# Altium footprint library rcl.PCBLIB: 489 footprints (part 9 of 31)
Each footprint in its own frame and in the unit in brackets; x right, y up, seen from the top. Pads: shape width x height; smd on the part's side, far side on the other; paste and mask are expansions set on the pad; w line width, h text height; cw(c..) or ccw(c..) is an arc to the next point about the centre after c.
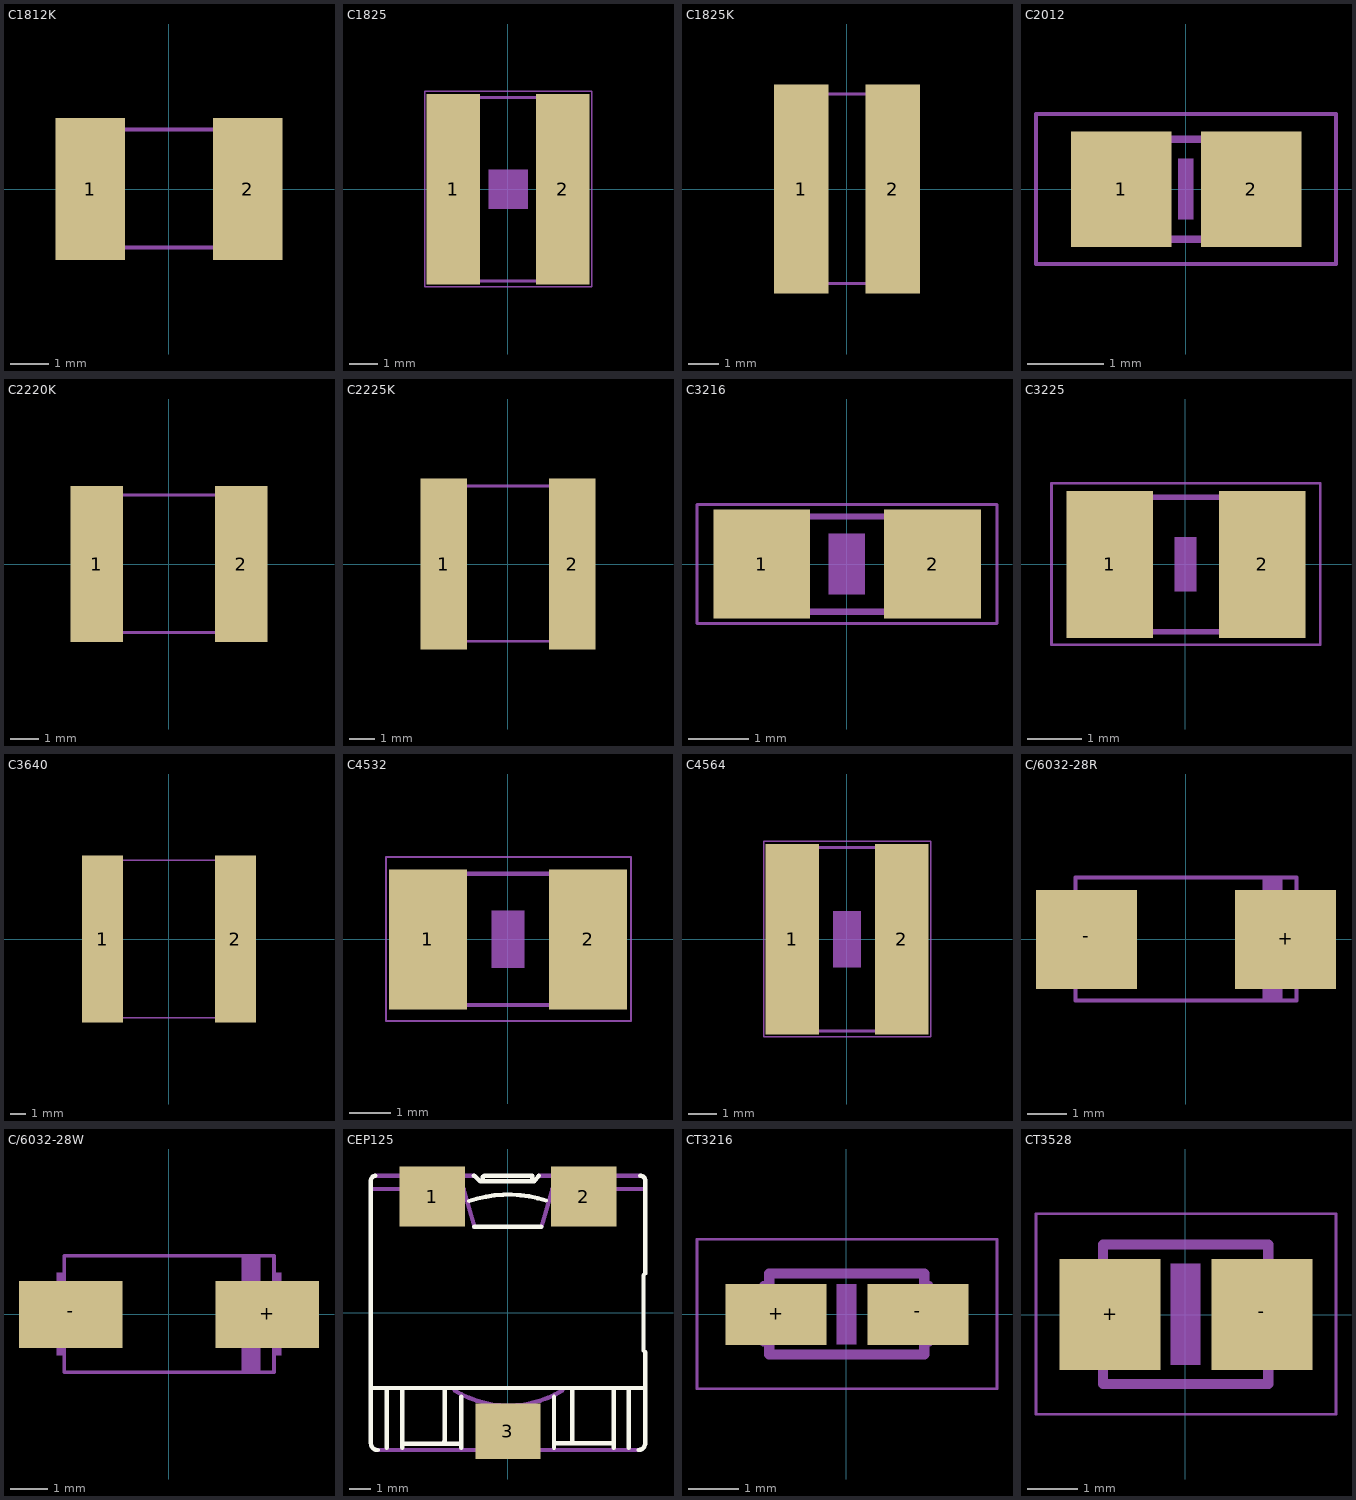
[diagram p8: the footprints below, top view; thin cyan lines are the x and y axes]

## C1812K [mil]
pads (2):
  rect 71x146 smd: 1(-80.71,0) 2(81,0)
Mechanical 16:
  rectangle: -88.58,-62.99 -64.96,63
  rectangle: 65,-62.99 89,63
  lines w4: -85.63,-60.04 86,-60.04 ; -85.63,61 86,61

## C1825 [mil]
pads (2):
  rect 75x268 smd: 1(-76.77,0) 2(77,0)
Mechanical 6:
  rectangle: -27.56,-27.56 28,28
Mechanical 16:
  rectangle: -95,-132 -57.6,132
  rectangle: 57,-132 95,132
  lines w4: -59,129 58,129 ; -58,-129 59,-129
Mechanical 27:
  lines w2: -117.05,-137.13 118,-137.13 118,138 -117.05,138 -117.05,-137.13

## C1825K [mil]
pads (2):
  rect 71x272 smd: 1(-59.06,0) 2(60,0)
Mechanical 16:
  rectangle: -62.99,-125.98 -43.31,126
  rectangle: 44,-125.98 63,126
  lines w4: -60.04,-123.03 61,-123.03 ; -60.04,124 61,124

## C2012 [mil]
pads (2):
  rect 52x60 smd: 1(-33.46,0) 2(34,0)
Mechanical 6:
  rectangle: -3.94,-15.75 4,16
Mechanical 16:
  rectangle: -43,-28.5 -13.47,29
  rectangle: 14,-28.5 44,29
  lines w4: -15,26 15,26 ; -14.02,-25.98 15,-25.98
Mechanical 27:
  lines w2: -77.68,-38.7 78,-38.7 78,39 -77.68,39 -77.68,-38.7

## C2220K [mil]
pads (2):
  rect 73x217 smd: 1(-100.39,0) 2(101,0)
Mechanical 16:
  rectangle: -110.24,-98.43 -86.61,99
  rectangle: 87,-98.43 111,99
  lines w4: -107.28,-95.47 108,-95.47 ; -107.28,96 108,96

## C2225K [mil]
pads (2):
  rect 73x268 smd: 1(-100.39,0) 2(101,0)
Mechanical 16:
  rectangle: -110.24,-124.02 -86.61,125
  rectangle: 87,-124.02 111,125
  lines w4: -107.28,-121.06 108,-121.06 ; -107.28,122 108,122

## C3216 [mil]
pads (2):
  rect 63x71 smd: 1(-55.12,0) 2(56,0)
Mechanical 6:
  rectangle: -11.81,-19.69 12,20
Mechanical 16:
  rectangle: -67,-33.5 -37.47,34
  rectangle: 38,-33.43 67,34
  lines w4: -37.99,-30.98 38,-30.98 ; -37.99,31 38,31
Mechanical 27:
  lines w2: -97.36,-38.7 98,-38.7 98,39 -97.36,39 -97.36,-38.7

## C3225 [mil]
pads (2):
  rect 63x107 smd: 1(-55.12,0) 2(56,0)
Mechanical 6:
  rectangle: -7.87,-19.69 8,20
Mechanical 16:
  rectangle: -67,-51 -37.47,52
  rectangle: 38,-51.36 67,51
  lines w4: -38,-49 38,-49 ; -38,49 38,49
Mechanical 27:
  lines w2: -97.36,-58.39 98,-58.39 98,59 -97.36,59 -97.36,-58.39

## C3640 [mil]
pads (2):
  rect 103x422 smd: 1(-167.99,0) 2(168,0)
Mechanical 16:
  rectangle: -179.92,-200.79 -120.08,201
  rectangle: 121,-200.79 180,201
  lines w4: -150.87,-198.8 151,-198.8 ; -150.87,199 151,199

## C4532 [mil]
pads (2):
  rect 75x134 smd: 1(-76.77,0) 2(77,0)
Mechanical 6:
  rectangle: -15.75,-27.56 16,28
Mechanical 16:
  rectangle: -94,-65 -56.6,65
  rectangle: 57,-65 95,65
  lines w4: -58,63 58,63 ; -57,-63 58,-63
Mechanical 27:
  lines w2: -117.05,-78.07 118,-78.07 118,79 -117.05,79 -117.05,-78.07

## C4564 [mil]
pads (2):
  rect 75x268 smd: 1(-76.77,0) 2(77,0)
Mechanical 6:
  rectangle: -19.69,-39.37 20,40
Mechanical 16:
  rectangle: -95,-132 -57.6,132
  rectangle: 57,-132 95,132
  lines w4: -59,129 58,129 ; -58,-129 59,-129
Mechanical 27:
  lines w2: -117.05,-137.13 118,-137.13 118,138 -117.05,138 -117.05,-137.13

## C/6032-28R [mil]
pads (2):
  rect 101x99 smd: +(100,0) -(-99.41,0)
Mechanical 16:
  rectangle: -118.11,-43.31 -112.2,44
  rectangle: 113,-43.31 119,44
  rectangle: 77,-62.01 97,63
  lines w4: -110.24,-61.02 111,-61.02 111,62 -110.24,62 -110.24,-61.02

## C/6032-28W [mil]
pads (2):
  rect 109x71 smd: +(104,0) -(-103.35,0)
Mechanical 16:
  rectangle: -118.11,-43.31 -112.2,44
  rectangle: 113,-43.31 119,44
  rectangle: 77,-62.01 97,63
  lines w4: -110.24,-61.02 111,-61.02 111,62 -110.24,62 -110.24,-61.02

## CEP125 [mil]
pads (3):
  rect 119x109 smd: 1(-137.8,212) 2(138,212)
  rect 119x101 smd: 3(0,-215.75)
Top Overlay:
  lines w8: -246.69,-136.82 246,-136.82 ; -241.5,250 ccw(c-241.15,241.34) -249.8,242 -249.8,-237.36 ccw(c-237.46,-237.46) -237.36,-249.8 ; -220.78,-245.65 -220.78,-140.96 ; -192.79,-245.65 -192.79,-140.96 ; -188.64,-238.39 -87.07,-238.39 ; -116.09,-234.25 -115.05,-234.25 -115.05,-140.96 ; -84.99,-245.65 -84.99,-152.37 ; -70.48,204 cw(c0.75,-3.12) 69,205 ; -62.19,250 -61.15,250 -50.79,240 -45.61,240 ; -61.16,157 61,157 ; 56,250 48,240 44,240 ; 84,-245.65 84,-152.37 ; 89,-237.36 193,-237.36 ; 117,-233.21 117,-140.96 ; 193,-245.65 193,-140.96 ; 220,-245.65 220,-140.96 ; 238,-249.8 ccw(c237.89,-237.68) 250,-237.36 250,-71.52 247,-68.41 247,69 250,72 250,241 ccw(c241.49,241.49) 241,250 ; -45.61,240 -45.61,248 ; -45.61,240 44,240 ; -45.61,248 -45.6,248 ; -45.6,248 -43.53,250 44,250 44,240
Mechanical 16:
  lines w8: -245.65,226 -80.85,226 -61.16,157 ; -241.5,250 -61.15,250 ; -237.36,-249.8 238,-249.8 ; -97.43,-140.96 ccw(c0.79,16.5) 99,-140.96 ; 56,250 241,250 ; 61,157 81,226 246,226

## CT3216 [mil]
pads (2):
  rect 79x48 smd: +(-55.12,0) -(56,0)
Mechanical 6:
  rectangle: -7.87,-23.62 8,24
Mechanical 16:
  lines w6: -65,-22.01 -65,23 ; 65,-22.01 65,23
  lines w8: -49.61,0 -27.56,0 ; -38.19,-11.81 -38.19,11 ; -60.43,-31.42 -60.43,32 61,32 61,-31.42 -60.43,-31.42
Mechanical 27:
  lines w2: -117.05,-58.39 118,-58.39 118,59 -117.05,59 -117.05,-58.39

## CT3528 [mil]
pads (2):
  rect 79x87 smd: +(-59.06,0) -(60,0)
Mechanical 6:
  rectangle: -11.81,-39.37 12,40
Mechanical 16:
  lines w6: -70,-40 -70,40 ; 70,-40 70,40
  lines w8: -51.57,0 -26.77,0 ; -39.37,-12.99 -39.37,12 ; -64.45,-54.45 -64.45,55 65,55 65,-54.45 -64.45,-54.45
Mechanical 27:
  lines w2: -117.05,-78.07 118,-78.07 118,79 -117.05,79 -117.05,-78.07